# Altium schematic symbol library TAS6424.SchLib: 1 symbol
Pins are listed as number, name and electrical type; pins without a type are passive.

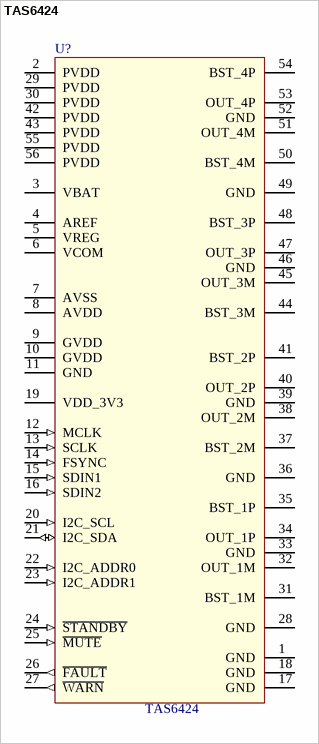
[diagram p0: symbol TAS6424]

## TAS6424
designator U?
75-W, 2-MHz Digital Input 4-Channel Automotive Class-D Audio Amplifier  With Load-Dump Protection and I  2C Diagnostics; value: TAS6424
footprint SSOP-56 (SSOP, 56-Leads, Body 18,41x7,49mm, Pitch 0,64mm, IPC Medium Density)
pins: 1 GND (power), 2 PVDD (power), 3 VBAT (power), 4 AREF (power), 5 VREG (power), 6 VCOM (power), 7 AVSS (power), 8 AVDD (power), 9 GVDD (power) "Gate drive voltage regulator for channel 3 and 4, derived from VBAT input pin", 10 GVDD (power) "Gate drive voltage regulator for channel 1 and 2, derived from VBAT input pin", 11 GND (power), 12 MCLK (in), 13 SCLK (in), 14 FSYNC (in), 15 SDIN1 (in), 16 SDIN2 (in), 17 GND (power), 18 GND (power), 19 VDD_3V3 (power), 20 I2C_SCL (in), 21 I2C_SDA (io), 22 I2C_ADDR0 (in), 23 I2C_ADDR1 (in), 24 ~{STANDBY} (in), 25 ~{MUTE} (in), 26 ~{FAULT} (out), 27 ~{WARN} (out), 28 GND (power), 29 PVDD (power), 30 PVDD (power), 31 BST_1M (power), 32 OUT_1M, 33 GND (power), 34 OUT_1P, 35 BST_1P (power), 36 GND (power), 37 BST_2M (power), 38 OUT_2M, 39 GND (power), 40 OUT_2P, 41 BST_2P (power), 42 PVDD (power), 43 PVDD (power), 44 BST_3M (power), 45 OUT_3M, 46 GND (power), 47 OUT_3P, 48 BST_3P (power), 49 GND (power), 50 BST_4M (power), 51 OUT_4M, 52 GND (power), 53 OUT_4P, 54 BST_4P (power), 55 PVDD (power), 56 PVDD (power)